# Altium footprint library trafo-xicon.PCBLIB: 3 footprints
Each footprint in its own frame and in the unit in brackets; x right, y up, seen from the top. Pads: shape width x height; smd on the part's side, far side on the other; paste and mask are expansions set on the pad; w line width, h text height; cw(c..) or ccw(c..) is an arc to the next point about the centre after c.
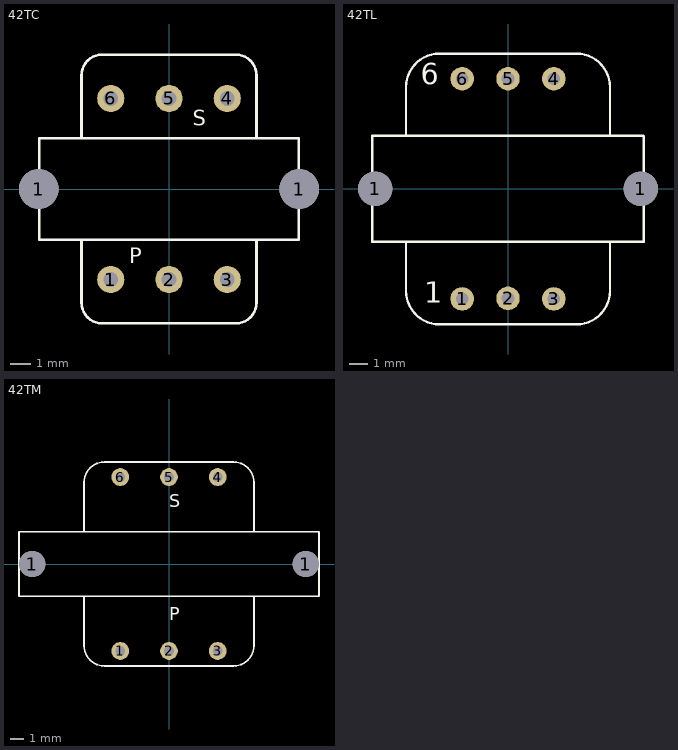
[diagram p0: the footprints below, top view; thin cyan lines are the x and y axes]

## 42TC [mil]
pads (8):
  round 74.8 hole 74.8: 1(-246,0) 1(246,0)
  round 51.18 hole 27.56: 1(-110,-171) 2(0,-171) 3(110,-171) 4(110,171) 5(0,171) 6(-110,171)
Top Overlay:
  lines w5: -244.82,-95.72 -244.82,95.82 243.82,95.82 ; -243.82,-95.82 244.82,-95.82 244.82,95.72 ; -165.35,-96.46 -165.35,-214.57 ccw(c-125.98,-214.57) -125.98,-253.94 125.98,-253.94 ccw(c125.98,-214.57) 165.35,-214.57 165.35,-96.46 ; -165.35,96.46 -165.35,214.57 cw(c-125.98,214.57) -125.98,253.94 125.98,253.94 cw(c125.98,214.57) 165.35,214.57 165.35,96.46
  text "P" at -75,-150 h49.6
  text "S" at 45,110 h49.6

## 42TL [mil]
pads (8):
  round 74.8 hole 74.8: 1(-289.5,0) 1(289.5,0)
  round 51.18 hole 27.56: 1(-100,-240) 2(0,-238.9) 3(100,-240) 4(100,240) 5(0,240) 6(-100,240)
Top Overlay:
  lines w5: -296,-115.41 -296,115.5 295,115.5 ; -295,-115.5 296,-115.5 296,114.82 ; -222.2,-118.5 -222.2,-222.7 ccw(c-149.4,-222.7) -149.4,-295.5 149.4,-295.5 ccw(c149.4,-222.7) 222.2,-222.7 222.2,-118.5 ; -222.2,116.44 -222.2,221.7 cw(c-149.4,221.7) -149.4,294.5 149.4,294.5 cw(c149.4,221.7) 222.2,221.7 222.2,116.44
  text "6" at -190.63,212.79 h77.5
  text "1" at -182.76,-264.01 h77.5

## 42TM [mil]
pads (8):
  round 74.8 hole 74.8: 1(-393,0) 1(393,0)
  round 51.18 hole 27.56: 1(-140,-250) 2(0,-250) 3(140,-250) 4(140,250) 5(0,250) 6(-140,250)
Top Overlay:
  lines w5: -244.09,-92.52 -431.1,-92.52 -431.1,92.52 -244.09,92.52 ; -244.09,-92.52 244.09,-92.52 ; -244.09,-92.52 -244.09,-234.25 ccw(c-185.03,-234.25) -185.04,-293.31 185.04,-293.31 ccw(c185.03,-234.25) 244.09,-234.25 244.09,-92.52 ; -244.09,92.52 -244.09,234.25 cw(c-185.03,234.25) -185.04,293.31 185.04,293.31 cw(c185.03,234.25) 244.09,234.25 244.09,92.52 ; -244.09,92.52 244.09,92.52 ; 244.09,-92.52 431.1,-92.52 431.1,92.52 244.09,92.52
  text "P" at 0,-175 h62
  text "S" at 0,150 h62